# Altium schematic symbol library bidirectional_audio.SchLib: 8 symbols
Pins are listed as number, name and electrical type; pins without a type are passive.

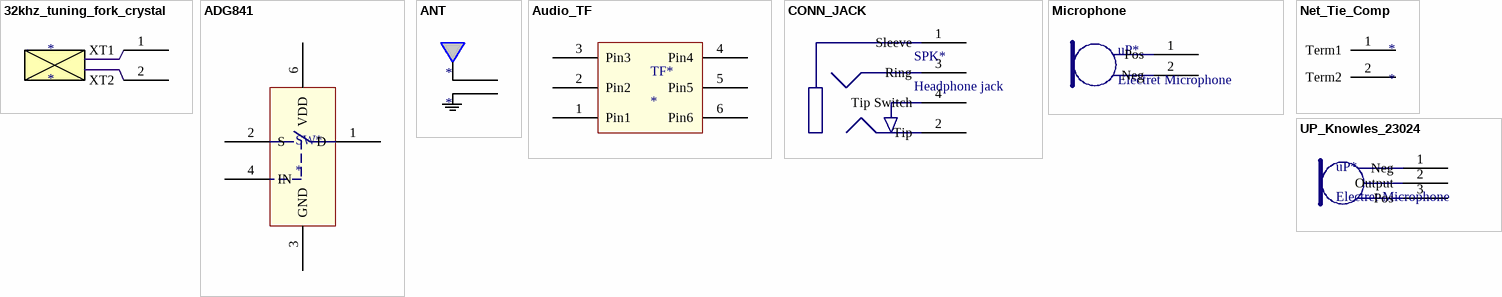
[diagram p0: symbols 32khz_tuning_fork_crystal to UP_Knowles_23024]

## 32khz_tuning_fork_crystal
designator *
pins: 1 XT1, 2 XT2

## ADG841
designator SW*
Audio Switch
footprint SC70-6 (DIP; 24 Leads; Row Spacing 15.24 mm; Pitch 2.54 mm)
pins: 1 D, 2 S, 3 GND, 4 IN, 6 VDD

## ANT
designator *
pins: 1 Feed, 2 Gnd

## Audio_TF
designator TF*
Audio Transformer by Triad
footprint Audio_TF (Audio Transformer Triad)
pins: 1 Pin1, 2 Pin2, 3 Pin3, 4 Pin4, 5 Pin5, 6 Pin6

## CONN_JACK
designator SPK*, comment Headphone jack
footprint CONN_JACK (PCB footprint for the headphone jack)
pins: 1 Sleeve, 2 Tip, 3 Ring, 4 Tip Switch

## Microphone
designator uP*, comment Electret Microphone
footprint Microphone (Footprint for Electret Microphone)
pins: 1 Pos, 2 Neg

## Net_Tie_Comp
designator *
pins: 1 Term1, 2 Term2

## UP_Knowles_23024
designator uP*, comment Electret Microphone
footprint uP_23024
pins: 1 Neg, 2 Output, 3 Pos